# Altium footprint library pcb_library.PcbLib: 24 footprints (part 1 of 2)
Each footprint in its own frame and in the unit in brackets; x right, y up, seen from the top. Pads: shape width x height; smd on the part's side, far side on the other; paste and mask are expansions set on the pad; w line width, h text height; cw(c..) or ccw(c..) is an arc to the next point about the centre after c.
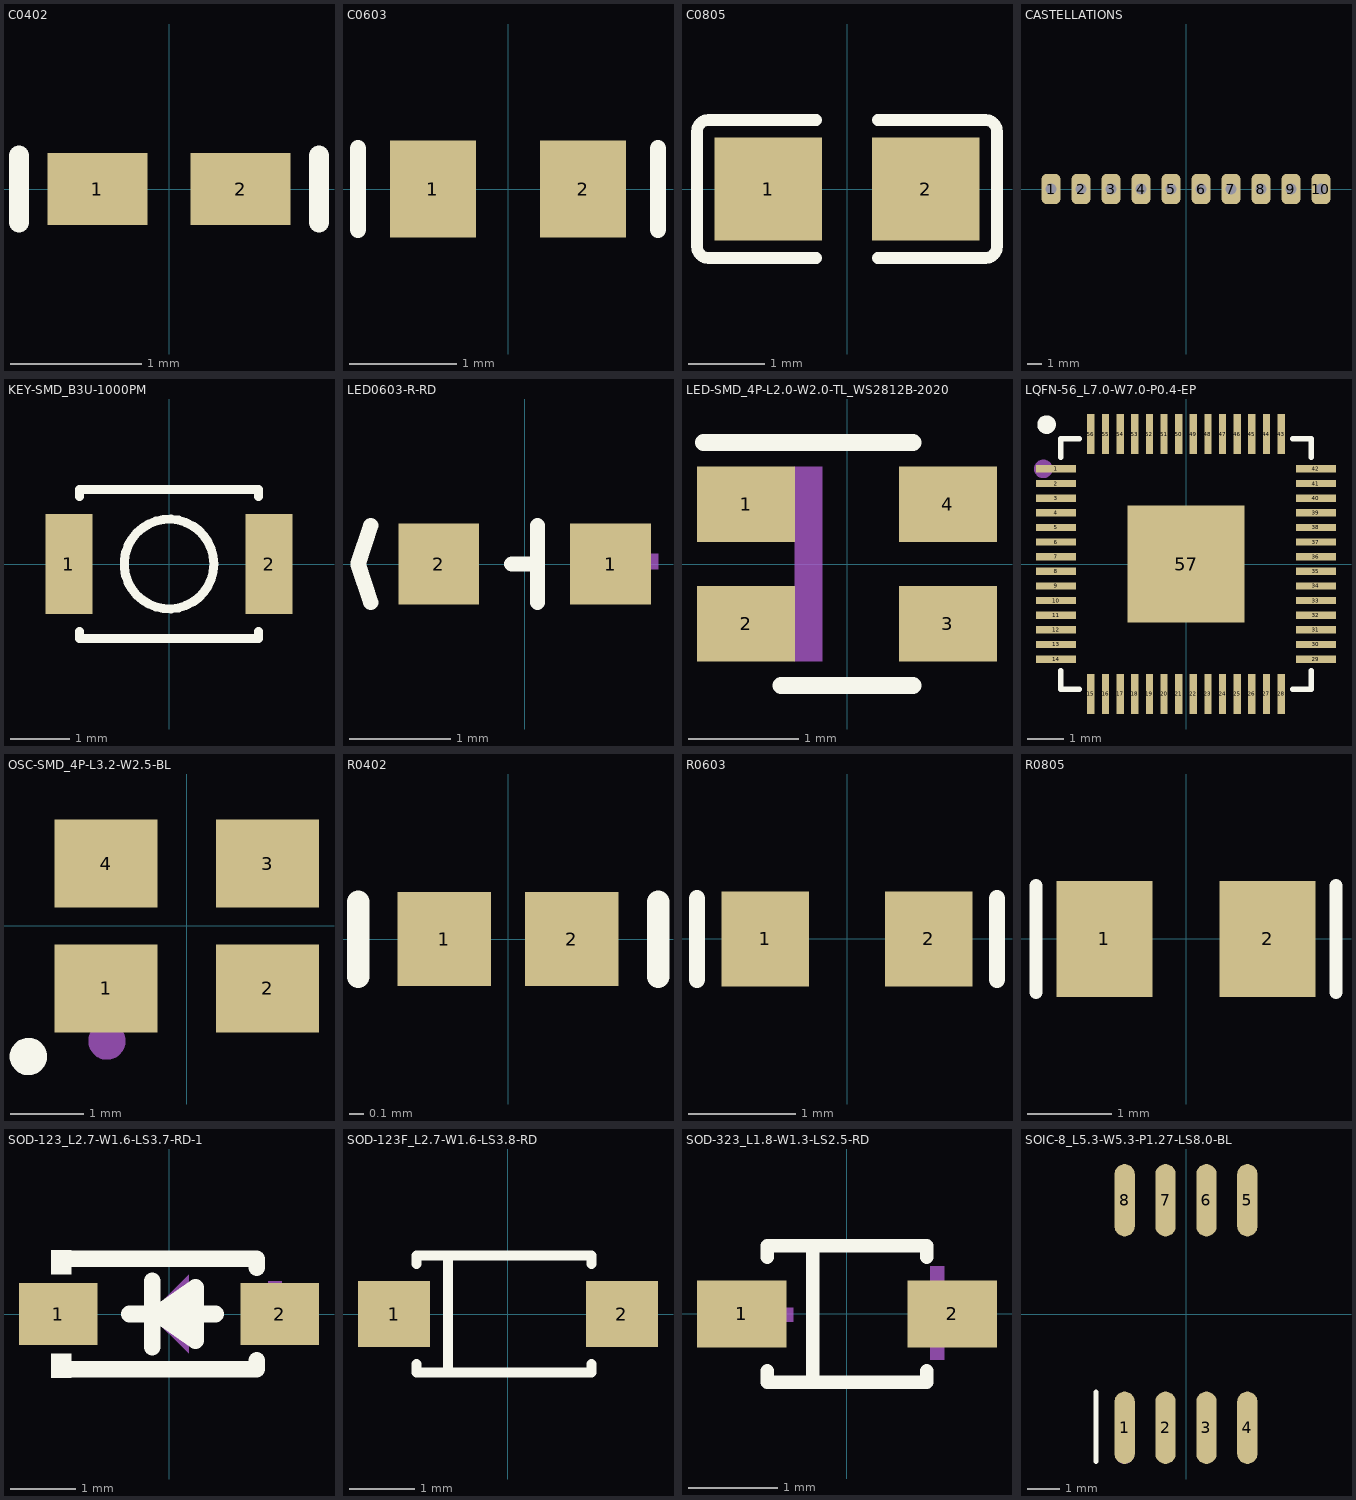
[diagram p0: the footprints below, top view; thin cyan lines are the x and y axes]

## C0402 [mil]
pads (2):
  rect 30x21.5 smd: 1(-21.5,0) 2(21.5,0)
Top Overlay:
  lines w6: -45,-10 -45,10 ; 45,-10 45,10
Top Paste:
  region: 32.68,8.86 32.68,-8.86 30.71,-10.83 9.84,-10.83 7.88,-8.86 7.88,8.86 9.84,10.83 30.71,10.83
  region: -7.87,8.86 -7.87,-8.86 -9.84,-10.83 -30.71,-10.83 -32.68,-8.86 -32.68,8.86 -30.71,10.83 -9.84,10.83
3D body "CAP0402.step": height 4.92, standoff -4.92, extent -19.68,-9.84 19.68,9.84

## C0603 [mm]
pads (2):
  rect 0.8x0.9 smd: 1(-0.7,0) 2(0.7,0)
Top Overlay:
  lines w0.152: -1.397,-0.381 -1.397,0.381 ; 1.397,-0.381 1.397,0.381
3D body "CAP0603.step": height 0.8, standoff 0, extent -0.8,-0.4 0.8,0.4

## C0805 [mm]
pads (2):
  rect 1.41x1.35 smd: 1(-1.03,0) 2(1.03,0)
Top Overlay:
  lines w0.152: -0.401,-0.904 -1.811,-0.904 cw(c-1.811,-0.751) -1.964,-0.751 -1.964,0.751 cw(c-1.811,0.751) -1.811,0.904 -0.401,0.904 ; 0.401,-0.904 1.811,-0.904 ccw(c1.811,-0.751) 1.964,-0.751 1.964,0.751 ccw(c1.811,0.751) 1.811,0.904 0.401,0.904
Top Paste:
  region: -1.675,-0.62 -1.675,0.66 -1.625,0.71 -0.475,0.71 -0.425,0.66 -0.42,0.25 -0.87,0.25 -0.87,-0.2 -0.43,-0.2 -0.425,-0.62 -0.475,-0.67 -1.625,-0.67
  region: 0.475,-0.62 0.475,-0.2 0.92,-0.2 0.92,0.25 0.48,0.25 0.475,0.66 0.525,0.71 1.675,0.71 1.725,0.66 1.725,-0.62 1.675,-0.67 0.525,-0.67

## CASTELLATIONS [mil]
pads (10):
  rrect50% 50x80 hole 30 paste-100: 1(-360,0) 2(-280,0) 3(-200,0) 4(-120,0) 5(-40,0) 6(40,0) 7(120,0) 8(200,0) 9(280,0) 10(360,0)

## KEY-SMD_B3U-1000PM [mm]
pads (2):
  rect 0.8x1.7 smd: 1(-1.7,0) 2(1.7,0)
Top Overlay:
  circle w0.152: c0,0 r0.762
  lines w0.152: -1.524,-1.143 -1.524,-1.27 1.524,-1.27 1.524,-1.143 ; -1.524,1.143 -1.524,1.27 1.524,1.27 1.524,1.143
3D body "B3U_1000P.step": height 1.6, standoff -0.5, extent -2,-1.25 2,1.25

## LED0603-R-RD [mm]
pads (2):
  rect 0.8x0.8 smd: 1(0.851,0) 2(-0.851,0)
Top Overlay:
  lines w0.152: -1.524,-0.381 -1.651,0 -1.524,0.381 ; -0.127,0 0.127,0 ; 0.127,-0.381 0.127,0.381
Mechanical 15:
  region: 0.66,0.102 1.321,0.102 1.321,-0.051 0.66,-0.051
  region: 0.936,-0.275 0.936,0.385 1.088,0.385 1.088,-0.275
  region: -1.193,0.05 -0.533,0.05 -0.533,-0.103 -1.193,-0.103

## LED-SMD_4P-L2.0-W2.0-TL_WS2812B-2020 [mil]
pads (4):
  rect 35x27 smd: 1(-36,21.3) 2(-36,-21.3) 3(36,-21.3) 4(36,21.3)
Top Overlay:
  lines w6: -51.18,43.31 23.62,43.31 ; -23.62,-43.31 23.62,-43.31
Mechanical 15:
  region: -32.28,-14.96 -22.83,-14.96 -22.83,-22.05 -31.1,-22.05 -31.1,-26.38 -22.83,-26.38 -22.83,-28.35 -32.28,-28.35 -32.68,-28.35 -32.68,-27.95 -32.68,-20.47 -24.02,-20.47 -24.02,-16.54 -32.68,-16.54 -32.68,-14.96
  region: -46.46,-26.18 -37.01,-26.18 -37.01,-28.15 -46.46,-28.15
  region: 25.79,17.91 25.79,27.36 27.76,27.36 27.76,17.91
  region: 22.05,23.62 31.5,23.62 31.5,21.65 22.05,21.65
  region: -8.86,34.65 -8.86,-34.65 -18.7,-34.65 -18.7,34.65
  region: 37.4,29.53 37.4,17.72 43.31,17.72 43.31,13.78 45.27,13.78 45.27,17.72 49.21,17.72 49.21,19.68 45.27,19.68 45.27,25.59 43.31,25.59 43.31,19.68 39.37,19.68 39.37,29.53
  region: -31.5,27.56 -33.47,25.59 -33.47,13.78 -33.46,13.78 -31.5,11.81 -23.62,11.81 -21.65,13.78 -21.65,25.59 -23.62,27.56 -27.56,27.56 -27.56,25.59 -23.62,25.59 -23.62,13.78 -31.5,13.78 -31.5,25.59 -29.53,25.59 -29.53,27.56
  region: -46.26,27.56 -46.26,11.81 -40.35,11.81 -38.38,11.81 -36.42,13.78 -36.42,25.59 -38.38,27.56 -42.32,27.56 -42.32,25.59 -38.38,25.59 -38.38,13.78 -44.29,13.78 -44.29,27.56
  region: 21.65,-13.78 21.65,-29.53 27.56,-29.53 29.53,-29.53 31.5,-27.56 31.5,-15.75 29.53,-13.78 25.59,-13.78 25.59,-15.75 29.53,-15.75 29.53,-27.56 23.62,-27.56 23.62,-13.78
  region: 36.42,-29.53 36.42,-27.56 38.39,-27.56 38.39,-15.75 36.42,-15.75 36.42,-13.78 42.32,-13.78 42.32,-15.75 40.35,-15.75 40.35,-27.56 42.32,-27.56 42.32,-29.53
3D body: height 33, standoff 0, extent -43.31,-39.37 43.31,39.37

## LQFN-56_L7.0-W7.0-P0.4-EP [mm]
pads (57):
  rect 1.1x0.2 smd: 1(-3.55,2.6) 2(-3.55,2.2) 3(-3.55,1.8) 4(-3.55,1.4) 5(-3.55,1) 6(-3.55,0.6) 7(-3.55,0.2) 8(-3.55,-0.2) 9(-3.55,-0.6) 10(-3.55,-1) 11(-3.55,-1.4) 12(-3.55,-1.8) 13(-3.55,-2.2) 14(-3.55,-2.6) 29(3.55,-2.6) 30(3.55,-2.2) 31(3.55,-1.8) 32(3.55,-1.4) 33(3.55,-1) 34(3.55,-0.6) 35(3.55,-0.2) 36(3.55,0.2) 37(3.55,0.6) 38(3.55,1) 39(3.55,1.4) 40(3.55,1.8) 41(3.55,2.2) 42(3.55,2.6)
  rect 0.2x1.1 smd: 15(-2.6,-3.55) 16(-2.2,-3.55) 17(-1.8,-3.55) 18(-1.4,-3.55) 19(-1,-3.55) 20(-0.6,-3.55) 21(-0.2,-3.55) 22(0.2,-3.55) 23(0.6,-3.55) 24(1,-3.55) 25(1.4,-3.55) 26(1.8,-3.55) 27(2.2,-3.55) 28(2.6,-3.55) 43(2.6,3.55) 44(2.2,3.55) 45(1.8,3.55) 46(1.4,3.55) 47(1,3.55) 48(0.6,3.55) 49(0.2,3.55) 50(-0.2,3.55) 51(-0.6,3.55) 52(-1,3.55) 53(-1.4,3.55) 54(-1.8,3.55) 55(-2.2,3.55) 56(-2.6,3.55)
  rect 3.2x3.2 smd: 57(0,0)
Top Overlay:
  circle w0.254: c-3.81,3.81 r0.127
  lines w0.152: -3.429,-2.921 -3.429,-3.429 -2.921,-3.429 ; -3.429,2.921 -3.429,3.429 -2.921,3.429 ; 2.921,-3.429 3.429,-3.429 3.429,-2.921 ; 2.921,3.429 3.429,3.429 3.429,2.921
Mechanical 15:
  circle w0.254: c-3.9,2.6 r0.127
3D body: height 0.9, standoff 0, extent -3.5,-3.5 3.5,3.5

## OSC-SMD_4P-L3.2-W2.5-BL [mm]
pads (4):
  rect 1.4x1.2 smd: 1(-1.1,-0.85) 2(1.1,-0.85) 3(1.1,0.85) 4(-1.1,0.85)
Top Overlay:
  circle w0.254: c-2.159,-1.778 r0.127
Mechanical 15:
  circle w0.254: c-1.088,-1.567 r0.127
  region: -1.738,-0.536 -1.702,-0.536 -1.702,-0.608 -1.738,-0.608
  region: -1.702,-0.536 -1.666,-0.536 -1.666,-0.608 -1.702,-0.608
  region: -1.666,-0.5 -1.63,-0.5 -1.63,-0.608 -1.666,-0.608
  region: -1.63,-0.464 -1.594,-0.464 -1.594,-0.572 -1.63,-0.572
  region: -1.594,-0.464 -1.558,-0.464 -1.558,-1.004 -1.594,-1.004
  region: -1.558,-0.428 -1.522,-0.428 -1.522,-1.004 -1.558,-1.004
  region: -1.522,-0.428 -1.486,-0.428 -1.486,-1.004 -1.522,-1.004
  region: -1.486,-0.428 -1.45,-0.428 -1.45,-1.004 -1.486,-1.004
3D body: height 0.76, standoff 0, extent -1.6,-1.3 1.6,1.3

## R0402 [mil]
pads (2):
  rect 25x25 smd: 1(-17,0) 2(17,0)
Top Overlay:
  lines w6: -40,-10 -40,10 ; 40,-10 40,10
Top Paste:
  region: 5.32,-9.05 5.32,9.05 6.89,10.63 26.6,10.63 28.18,9.05 28.18,-9.05 26.6,-10.63 6.89,-10.63
  region: -5.32,-9.05 -5.32,9.05 -6.89,10.63 -26.6,10.63 -28.18,9.05 -28.18,-9.05 -26.6,-10.63 -6.89,-10.63
3D body "RES0402.stp": height 19.3, standoff 0, extent -21,-11 21,11

## R0603 [mil]
pads (2):
  rect 32x35 smd: 1(-30,0) 2(30,0)
Top Overlay:
  lines w6: -55,-15 -55,15 ; 55,-15 55,15
Top Paste:
  region: 47.05,17.72 15.55,17.72 13.58,15.75 13.58,6.77 28.15,6.77 28.15,-6.22 13.58,-6.22 13.58,-15.75 15.55,-17.72 47.05,-17.72 49.02,-15.75 49.02,15.75
  region: -13.98,15.75 -13.98,6.77 -28.94,6.77 -28.94,-6.22 -13.98,-6.22 -13.98,-15.75 -15.94,-17.72 -47.05,-17.72 -49.02,-15.75 -49.02,15.75 -47.05,17.72 -15.94,17.72
3D body "RES0603.stp": height 18.86, standoff 1.14, extent -30.51,-15.75 30.51,15.75

## R0805 [mm]
pads (2):
  rect 1.133x1.377 smd: 1(-0.966,0) 2(0.966,0)
Top Overlay:
  lines w0.152: -1.778,-0.635 -1.778,0.635 ; 1.778,-0.635 1.778,0.635
Top Paste:
  region: -1.7,-0.64 -1.7,0.64 -1.65,0.69 -0.5,0.69 -0.45,0.64 -0.445,0.23 -0.895,0.23 -0.895,-0.22 -0.455,-0.22 -0.45,-0.64 -0.5,-0.69 -1.65,-0.69
  region: 0.45,-0.64 0.45,-0.22 0.895,-0.22 0.895,0.23 0.455,0.23 0.45,0.64 0.5,0.69 1.65,0.69 1.7,0.64 1.7,-0.64 1.65,-0.69 0.5,-0.69
3D body "RES0705.stp": height 0.49, standoff 0, extent -1.016,-0.635 1.016,0.635

## SOD-123_L2.7-W1.6-LS3.7-RD-1 [mm]
pads (2):
  rect 1.2x0.95 smd: 1(-1.7,0) 2(1.7,0)
Top Overlay:
  region: 0.406,-0.406 0.406,0.406 -0.178,0
  region: -1.502,0.977 -1.502,0.607 -1.806,0.607 -1.806,0.977
  region: -1.502,-0.977 -1.502,-0.607 -1.806,-0.607 -1.806,-0.977
  lines w0.254: -1.644,0.849 -1.643,0.85 -1.346,0.85 1.346,0.85 1.346,0.706 ; -1.639,-0.849 -1.638,-0.85 -1.346,-0.85 1.346,-0.85 1.346,-0.706 ; -0.61,0 -0.28,0 ; -0.254,-0.508 -0.254,0.508 ; 0.406,0 0.72,0 ; -0.178,0 0.406,0.406 0.406,-0.406 -0.178,0
Mechanical 15:
  region: 1.19,0.212 2.032,0.212 2.032,0.005 1.189,0.005
  region: 1.525,-0.338 1.525,0.504 1.732,0.504 1.732,-0.339
  region: -2.042,0.124 -1.2,0.124 -1.2,-0.083 -2.042,-0.083
  region: -0.3,0 0.3,-0.6 0.3,0.6

## SOD-123F_L2.7-W1.6-LS3.8-RD [mm]
pads (2):
  rect 1.1x1 smd: 1(-1.735,0) 2(1.735,0)
Top Overlay:
  lines w0.152: -1.397,-0.762 -1.397,-0.889 1.27,-0.889 1.27,-0.762 ; -1.397,0.762 -1.397,0.889 1.27,0.889 1.27,0.762 ; -0.917,-0.889 -0.917,0.889
Mechanical 15:
  region: -2.032,0.127 -2.032,-0.065 -1.264,-0.065 -1.264,0.127
  region: 2.035,0.096 2.035,-0.096 1.267,-0.096 1.267,0.096
  region: 1.747,-0.384 1.555,-0.384 1.555,0.384 1.747,0.384
3D body "SOD123.step": height 1.19, standoff -0.01, extent -1.905,-0.796 1.695,0.804

## SOD-323_L1.8-W1.3-LS2.5-RD [mm]
pads (2):
  rect 1x0.75 smd: 1(-1.173,0) 2(1.173,0)
Top Overlay:
  lines w0.152: -0.889,-0.635 -0.889,-0.762 0.889,-0.762 0.889,-0.635 ; -0.889,0.635 -0.889,0.762 0.889,0.762 0.889,0.635 ; -0.381,-0.762 -0.381,0.762
Mechanical 15:
  region: -1.225,0.07 -1.225,-0.086 -0.601,-0.086 -0.601,0.07
  region: 1.315,0.09 1.315,-0.066 0.691,-0.066 0.691,0.09
  region: 1.083,0.53 1.083,-0.51 0.927,-0.51 0.927,0.53
3D body "SOD323.step": height 0.88, standoff -0.05, extent -1.241,-0.637 1.247,0.613

## SOIC-8_L5.3-W5.3-P1.27-LS8.0-BL [mm]
pads (8):
  oval 0.63x2.25 smd: 1(-1.905,-3.53) 2(-0.635,-3.53) 3(0.635,-3.53) 4(1.905,-3.53) 5(1.905,3.53) 6(0.635,3.53) 7(-0.635,3.53) 8(-1.905,3.53)
Top Overlay:
  lines w0.152: -2.794,-4.572 -2.794,-2.413
Mechanical 15:
  circle w0.3: c-1.905,-4.35 r0.15
3D body: height 2.16, standoff 0, extent -2.667,-2.286 2.639,2.286